# Altium schematic symbol library RPSLib_Logic.SchLib: 20 symbols
Pins are listed as number, name and electrical type; pins without a type are passive.

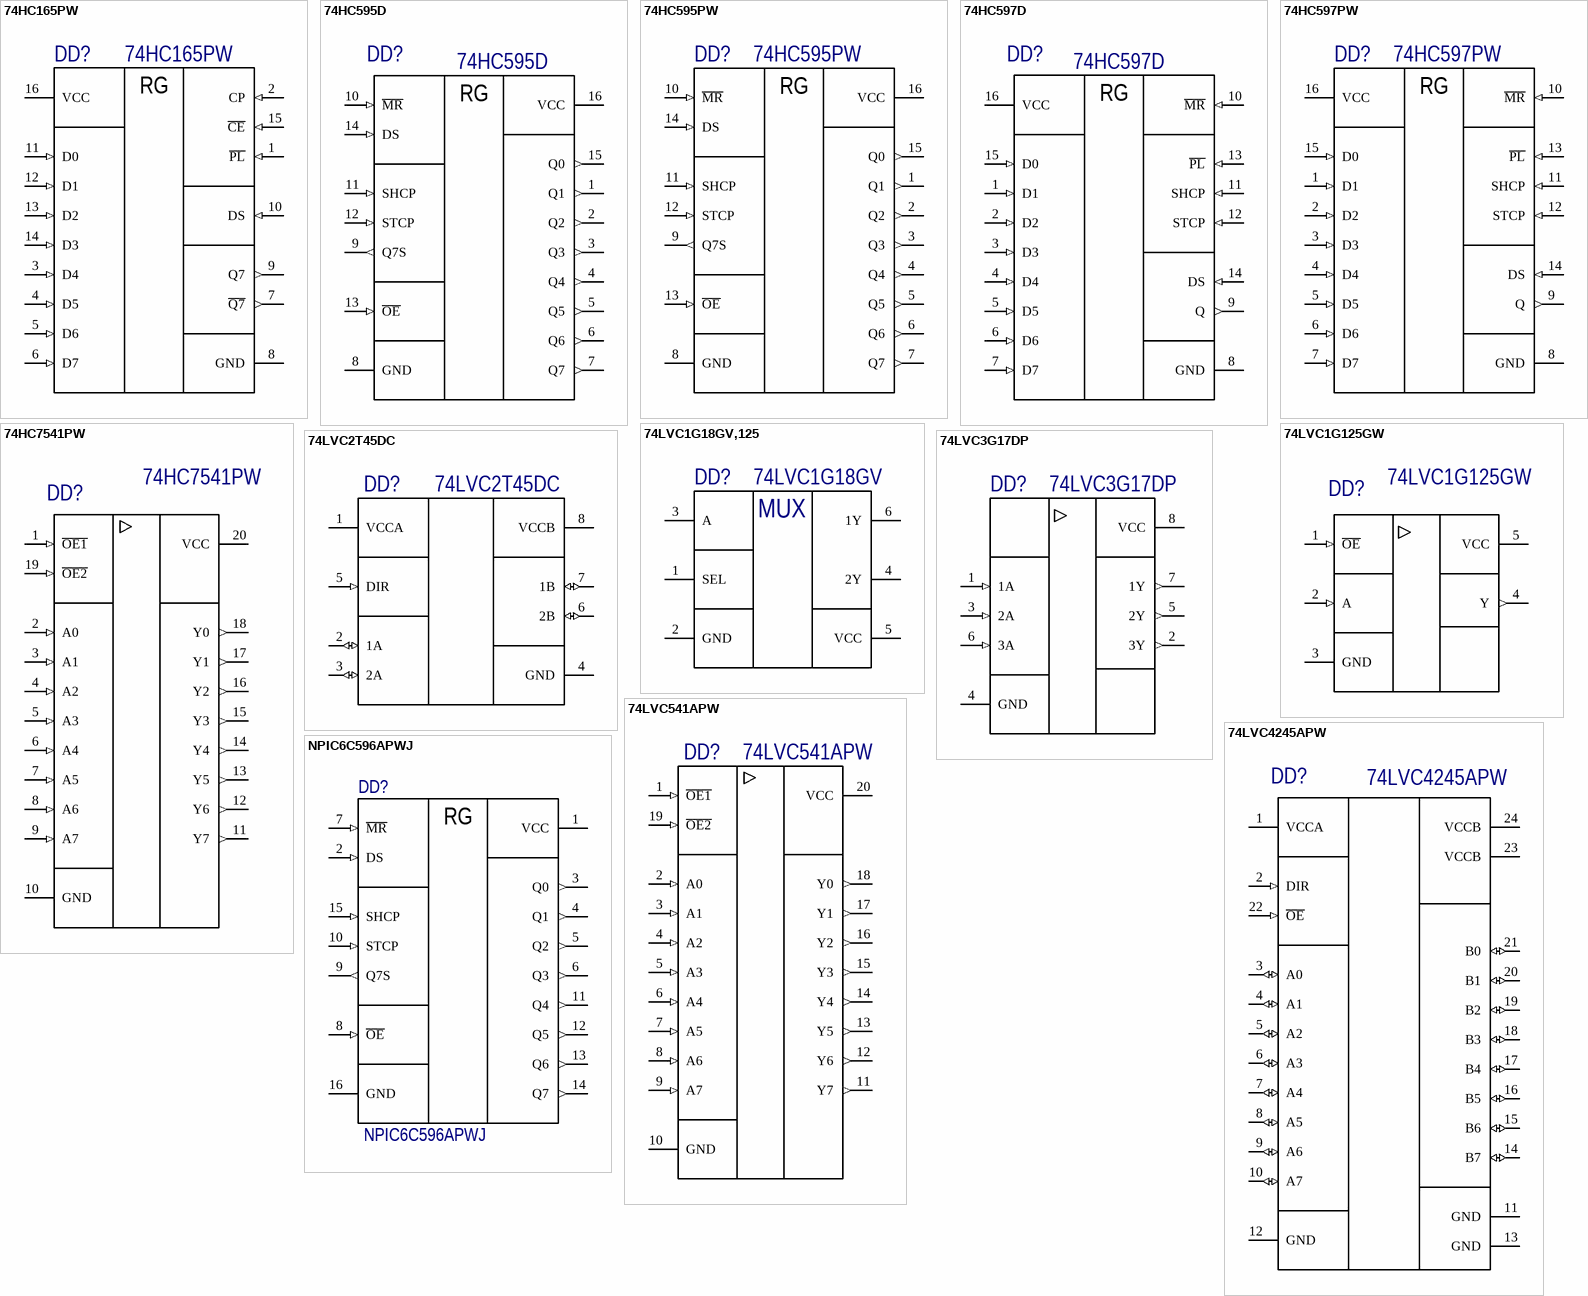
[diagram p0: symbols 74HC165PW to NPIC6C596APWJ]

## 74HC165PW
designator DD?
IC SHIFT REGISTER 8BIT 16TSSOP; Manufacturer: Nexperia; Manufacturer Part Number: 74HC165PW,118; Supplier 1: Digi-Key; RoHS: No; Stock 1: 19921; Pricing 1: 1=0,41000, 10=0,33600, 25=0,30720, 100=0,22870, 250=0,20728, 500=0,17152, 1000=0,12865 (USD); Supplier Part Number 1: 1727-4295-1-ND
footprint TSOP65P640X110-16N (TSOP, 16-Leads, Body 5,00x4,40mm, Pitch 0,65mm, IPC Medium Density)
pins: 1 ~{PL} (in), 2 CP (in), 3 D4 (in), 4 D5 (in), 5 D6 (in), 6 D7 (in), 7 ~{Q7} (out), 8 GND (power), 9 Q7 (out), 10 DS (in), 11 D0 (in), 12 D1 (in), 13 D2 (in), 14 D3 (in), 15 ~{CE} (in), 16 VCC (power)
text: RG

## 74HC595D
designator DD?
IC SHIFT REGISTER 8BIT 16SOIC; Manufacturer: Nexperia; Manufacturer Part Number: 74HC595D,118; Supplier 1: Digi-Key; Stock 1: 104953; Pricing 1: 1=0,48000, 10=0,36500, 25=0,32920, 100=0,22740, 250=0,19148, 500=0,15558, 1000=0,11968 (USD); RoHS: No; ComponentLink1URL: http://www.farnell.com/datasheets/2038613.pdf?src-supplier=Farnell; ComponentLink1Description: http://www.farnell.com/datasheets/2038613.pdf?src-supplier=Farnell; ComponentLink2URL: http://www.farnell.com/datasheets/2038613.pdf?src-supplier=Newark; ComponentLink2Description: http://www.farnell.com/datasheets/2038613.pdf?src-supplier=Newark; ComponentLink3URL: http://www.farnell.com/datasheets/2038613.pdf?src-supplier=Element14; ComponentLink3Description: http://www.farnell.com/datasheets/2038613.pdf?src-supplier=Element14; ComponentLink4URL: https://assets.nexperia.com/documents/data-sheet/74HC_HCT595.pdf?src-supplier=Digi-Key; ComponentLink4Description: https://assets.nexperia.com/documents/data-sheet/74HC_HCT595.pdf?src-supplier=Digi-Key; Supplier Part Number 1: 1727-2821-1-ND
footprint SOIC127P600X175-16N (SOIC, 16-Leads, Body 9,90x3,90mm, Pitch 1,27mm, IPC Medium Density)
pins: 1 Q1 (out), 2 Q2 (out), 3 Q3 (out), 4 Q4 (out), 5 Q5 (out), 6 Q6 (out), 7 Q7 (out), 8 GND (power), 9 Q7S (out), 10 ~{MR} (in), 11 SHCP (in), 12 STCP (in), 13 ~{OE} (in), 14 DS (in), 15 Q0 (out), 16 VCC (power)
text: RG

## 74HC595PW
designator DD?
IC SHIFT REGISTER 8BIT 16TSSOP; Manufacturer: Nexperia; Manufacturer Part Number: 74HC595PW,118; Supplier 1: Digi-Key; RoHS: No; Stock 1: 252659; Pricing 1: 1=0,48000, 10=0,35900, 25=0,32400, 100=0,22390, 250=0,18856, 500=0,15320, 1000=0,11784 (USD); ComponentLink1URL: http://www.farnell.com/datasheets/2242041.pdf?src-supplier=Farnell; ComponentLink1Description: http://www.farnell.com/datasheets/2242041.pdf?src-supplier=Farnell; ComponentLink2URL: https://assets.nexperia.com/documents/data-sheet/74HC_HCT595.pdf?src-supplier=Digi-Key; ComponentLink2Description: https://assets.nexperia.com/documents/data-sheet/74HC_HCT595.pdf?src-supplier=Digi-Key; Supplier Part Number 1: 1727-3068-1-ND
footprint TSOP65P640X110-16N (TSOP, 16-Leads, Body 5,00x4,40mm, Pitch 0,65mm, IPC Medium Density)
pins: 1 Q1 (out), 2 Q2 (out), 3 Q3 (out), 4 Q4 (out), 5 Q5 (out), 6 Q6 (out), 7 Q7 (out), 8 GND (power), 9 Q7S (out), 10 ~{MR} (in), 11 SHCP (in), 12 STCP (in), 13 ~{OE} (in), 14 DS (in), 15 Q0 (out), 16 VCC (power)
text: RG

## 74HC597D
designator DD?
IC SHIFT REGISTER 8BIT 16SOIC; Manufacturer: NXP Semiconductors; Manufacturer Part Number: 74HC597D653; Operating Supply Voltage: 5V; Direction: Unidirectional; Number of Inputs: 8; Number of Elements: 1; Propagation Delay: 16ns; Min Supply Voltage: 2V; Max Supply Voltage: 6V; Number of Input Lines: 9; Turn-On Delay Time: 375ns; Quiescent Current: 8uA; RoHS: Yes; Mount: Surface Mount; Case/Package: SO; Number of Pins: 16; Contact Plating: Gold; Min Operating Temperature: -40°C; Max Operating Temperature: 125°C; Logic Function: Shift Register; Package Quantity: 1; Packaging: Tape and Reel; Number of Bits per Element: 8; Number of Circuits: 1; Number of Output Lines: 1; Number of Bits: 8; Radiation Hardening: No; REACH SVHC: No SVHC; Lead Free: Lead Free; ComponentLink1URL: https://datasheet.ciiva.com/1886/74hc-hct597-1886032.pdf?src-supplier=Digi-Key; ComponentLink1Description: https://datasheet.ciiva.com/1886/74hc-hct597-1886032.pdf?src-supplier=Digi-Key; ComponentLink2URL: https://datasheet.ciiva.com/46414/1841946-46414906.pdf?src-supplier=Element14; ComponentLink2Description: https://datasheet.ciiva.com/46414/1841946-46414906.pdf?src-supplier=Element14; ComponentLink3URL: https://datasheet.ciiva.com/1886/74hc-hct597-1886030.pdf?src-supplier=Digi-Key; ComponentLink3Description: https://datasheet.ciiva.com/1886/74hc-hct597-1886030.pdf?src-supplier=Digi-Key; ComponentLink4URL: https://datasheet.ciiva.com/1886/74hc-hct597-1886031.pdf?src-supplier=Digi-Key; ComponentLink4Description: https://datasheet.ciiva.com/1886/74hc-hct597-1886031.pdf?src-supplier=Digi-Key; Supplier 1: Digi-Key; Supplier Part Number 1: 1727-6341-1-ND
footprint SOIC127P600X175-16N (SOIC, 16-Leads, Body 9,90x3,90mm, Pitch 1,27mm, IPC Medium Density)
pins: 1 D1 (in), 2 D2 (in), 3 D3 (in), 4 D4 (in), 5 D5 (in), 6 D6 (in), 7 D7 (in), 8 GND (power), 9 Q (out), 10 ~{MR} (in), 11 SHCP (in), 12 STCP (in), 13 ~{PL} (in), 14 DS (in), 15 D0 (in), 16 VCC (power)
text: RG

## 74HC597PW
designator DD?
IC 8BIT SHIFT REGISTER 16TSSOP; Manufacturer: Nexperia USA; Manufacturer Part Number: 74HC597PW,118; Supplier 1: Digi-Key; RoHS: No; Stock 1: 9837; Pricing 1: 1=0,63000, 10=0,53700, 25=0,50080, 100=0,40060, 250=0,37200, 500=0,31476, 1000=0,24322 (USD); ComponentLink1URL: https://assets.nexperia.com/documents/data-sheet/74HC_HCT597.pdf?src-supplier=Digi-Key; ComponentLink1Description: https://assets.nexperia.com/documents/data-sheet/74HC_HCT597.pdf?src-supplier=Digi-Key; Supplier Part Number 1: 1727-5962-1-ND
footprint TSOP65P640X110-16N (TSOP, 16-Leads, Body 5,00x4,40mm, Pitch 0,65mm, IPC Medium Density)
pins: 1 D1 (in), 2 D2 (in), 3 D3 (in), 4 D4 (in), 5 D5 (in), 6 D6 (in), 7 D7 (in), 8 GND (power), 9 Q (out), 10 ~{MR} (in), 11 SHCP (in), 12 STCP (in), 13 ~{PL} (in), 14 DS (in), 15 D0 (in), 16 VCC (power)
text: RG

## 74HC7541PW
designator DD?
Schmitt Trigger Buffer/Line Driver 8-CH Non-Inverting 3-ST CMOS 20-Pin TSSOP T/R; Manufacturer: Nexperia; Manufacturer Part Number: 74HC7541PW,118; Supplier 1: Digi-Key; Stock 1: 1843; Pricing 1: 1=0,77000, 10=0,68000, 25=0,63880, 100=0,52120, 250=0,48412, 500=0,41200, 1000=0,32960 (USD); RoHS: No; Supplier Part Number 1: 1727-7531-1-ND
footprint TSOP65P640X110-20N (TSOP, 20-Leads, Body 6,50x4,40mm, Pitch 0,65mm, IPC Medium Density)
pins: 1 ~{OE1} (in), 2 A0 (in), 3 A1 (in), 4 A2 (in), 5 A3 (in), 6 A4 (in), 7 A5 (in), 8 A6 (in), 9 A7 (in), 10 GND (power), 11 Y7 (out), 12 Y6 (out), 13 Y5 (out), 14 Y4 (out), 15 Y3 (out), 16 Y2 (out), 17 Y1 (out), 18 Y0 (out), 19 ~{OE2} (in), 20 VCC (power)

## 74LVC1G18GV,125
designator DD?, comment 74LVC1G18GV
IC DEMULTIPLEXER 3-ST 6TSOP; Manufacturer: Nexperia; Manufacturer Part Number: 74LVC1G18GV,125; Supplier 1: Digi-Key; RoHS: Yes; Category: Decoders and Multiplexers; Stock 1: 25; Pricing 1: 1=0,48000, 10=0,35900, 25=0,31440, 100=0,20340, 250=0,16836, 500=0,13470, 1000=0,10327 (USD); ComponentLink1URL: https://assets.nexperia.com/documents/data-sheet/74LVC1G18.pdf?src-supplier=Digi-Key; ComponentLink1Description: https://assets.nexperia.com/documents/data-sheet/74LVC1G18.pdf?src-supplier=Digi-Key; Supplier Part Number 1: 1727-6972-1-ND
pins: 1 SEL, 2 GND, 3 A, 4 2Y, 5 VCC, 6 1Y
text: MUX

## 74LVC1G125GW
designator DD?
IC BUF NON-INVERT 5.5V 5TSSOP; Manufacturer: Nexperia USA; Manufacturer Part Number: 74LVC1G125GW,125; Supplier 1: Digi-Key; Stock 1: 102445; Pricing 1: 1=0,25000, 10=0,20600, 25=0,17240, 100=0,10910, 250=0,08420, 500=0,07178, 1000=0,04881 (USD); RoHS: No; ComponentLink1URL: http://www.farnell.com/datasheets/2192952.pdf?src-supplier=Farnell; ComponentLink1Description: http://www.farnell.com/datasheets/2192952.pdf?src-supplier=Farnell; ComponentLink2URL: https://assets.nexperia.com/documents/data-sheet/74LVC1G125.pdf?src-supplier=Digi-Key; ComponentLink2Description: https://assets.nexperia.com/documents/data-sheet/74LVC1G125.pdf?src-supplier=Digi-Key; Supplier Part Number 1: 1727-3488-1-ND
footprint SOT65P212X110-5N (SOT23, 5-Leads, Body 2,05x2,13mm, Pitch 0,65mm, IPC Medium Density)
pins: 1 ~{OE} (in), 2 A (in), 3 GND (power), 4 Y (out), 5 VCC (power)

## 74LVC2T45DC
designator DD?
IC TRNSLTR BIDIRECTIONAL 8VSSOP; Manufacturer: Nexperia; Manufacturer Part Number: 74LVC2T45DC,125; Supplier 1: Digi-Key; RoHS: No; Stock 1: 13578; Pricing 1: 1=0,65000, 10=0,55700, 100=0,38650, 500=0,31216, 1000=0,23041 (USD); ComponentLink1URL: http://www.farnell.com/datasheets/1758266.pdf?src-supplier=Farnell; ComponentLink1Description: http://www.farnell.com/datasheets/1758266.pdf?src-supplier=Farnell; ComponentLink2URL: https://assets.nexperia.com/documents/data-sheet/74LVC_LVCH2T45.pdf?src-supplier=Digi-Key; ComponentLink2Description: https://assets.nexperia.com/documents/data-sheet/74LVC_LVCH2T45.pdf?src-supplier=Digi-Key; Supplier Part Number 1: 1727-4578-1-ND
footprint TSSOP50P310X100-8N (TSSOP, 8-Leads, Body 2,00x2,30mm, Pitch 0,50mm, IPC Medium Density)
pins: 1 VCCA, 2 1A (io), 3 2A (io), 4 GND, 5 DIR (in), 6 2B (io), 7 1B (io), 8 VCCB (power)

## 74LVC3G17DP
designator DD?
IC BUF NON-INVERT 5.5V 8TSSOP; Manufacturer: Nexperia; Manufacturer Part Number: 74LVC3G17DP,125; Supplier 1: Digi-Key; RoHS: No; Stock 1: 88518; Pricing 1: 1=0,56000, 10=0,48300, 25=0,45080, 100=0,36050, 250=0,33476, 500=0,28326, 1000=0,21888 (USD); ComponentLink1URL: https://assets.nexperia.com/documents/data-sheet/74LVC3G17.pdf?src-supplier=Digi-Key; ComponentLink1Description: https://assets.nexperia.com/documents/data-sheet/74LVC3G17.pdf?src-supplier=Digi-Key; Supplier Part Number 1: 1727-5998-1-ND
footprint TSSOP50P310X100-8N (TSSOP, 8-Leads, Body 2,00x2,30mm, Pitch 0,50mm, IPC Medium Density)
pins: 1 1A (in), 2 3Y (out), 3 2A (in), 4 GND (power), 5 2Y (out), 6 3A (in), 7 1Y (out), 8 VCC (power)

## 74LVC541APW
designator DD?
IC BUF NON-INVERT 3.6V 20TSSOP; Manufacturer: Nexperia; Manufacturer Part Number: 74LVC541APW,118; Supplier 1: Digi-Key; Stock 1: 35269; Pricing 1: 1=0,49000, 10=0,39800, 25=0,36440, 100=0,27120, 250=0,24576, 500=0,20338, 1000=0,15253 (USD); RoHS: No; ComponentLink1URL: https://assets.nexperia.com/documents/data-sheet/74LVC541A.pdf?src-supplier=Digi-Key; ComponentLink1Description: https://assets.nexperia.com/documents/data-sheet/74LVC541A.pdf?src-supplier=Digi-Key; Supplier Part Number 1: 1727-6370-1-ND
footprint TSOP65P640X110-20N (TSOP, 20-Leads, Body 6,50x4,40mm, Pitch 0,65mm, IPC Medium Density)
pins: 1 ~{OE1} (in), 2 A0 (in), 3 A1 (in), 4 A2 (in), 5 A3 (in), 6 A4 (in), 7 A5 (in), 8 A6 (in), 9 A7 (in), 10 GND (power), 11 Y7 (out), 12 Y6 (out), 13 Y5 (out), 14 Y4 (out), 15 Y3 (out), 16 Y2 (out), 17 Y1 (out), 18 Y0 (out), 19 ~{OE2} (in), 20 VCC (power)

## 74LVC4245APW
designator DD?
IC TRNSLTR BIDIRECTIONAL 24TSSOP; Manufacturer: Nexperia; Manufacturer Part Number: 74LVC4245APW,118; Supplier 1: Digi-Key; Stock 1: 36824; Pricing 1: 1=0,67000, 10=0,58900, 25=0,55320, 100=0,45160, 250=0,41948, 500=0,35700, 1000=0,28560 (USD); RoHS: No; ComponentLink1URL: http://www.farnell.com/datasheets/1714648.pdf?src-supplier=Farnell; ComponentLink1Description: http://www.farnell.com/datasheets/1714648.pdf?src-supplier=Farnell; ComponentLink2URL: https://assets.nexperia.com/documents/data-sheet/74LVC4245A.pdf?src-supplier=Digi-Key; ComponentLink2Description: https://assets.nexperia.com/documents/data-sheet/74LVC4245A.pdf?src-supplier=Digi-Key; ComponentLink3URL: http://www.farnell.com/datasheets/1714648.pdf?src-supplier=Element14; ComponentLink3Description: http://www.farnell.com/datasheets/1714648.pdf?src-supplier=Element14; Supplier Part Number 1: 1727-4308-6-ND
footprint TSOP65P640X110-24N (TSOP, 24-Leads, Body 7,80x4,40mm, Pitch 0,65mm, IPC Medium Density)
pins: 1 VCCA (power), 2 DIR (in), 3 A0 (io), 4 A1 (io), 5 A2 (io), 6 A3 (io), 7 A4 (io), 8 A5 (io), 9 A6 (io), 10 A7 (io), 11 GND (power), 12 GND (power), 13 GND (power), 14 B7 (io), 15 B6 (io), 16 B5 (io), 17 B4 (io), 18 B3 (io), 19 B2 (io), 20 B1 (io), 21 B0 (io), 22 ~{OE} (in), 23 VCCB (power), 24 VCCB (power)

## NPIC6C596APWJ
designator DD?
NPIC6C596A Series 5.5 V Open-Drain Power Logic 8-Bit Shift Register - TSSOP-16; Manufacturer: Nexperia; Supplier 1: Digi-Key; Manufacturer Part Number: NPIC6C596APWJ; RoHS: Yes; Category: Shift Registers; Stock 1: 31242; Pricing 1: 1=0,83000, 10=0,73000, 25=0,68560, 100=0,55940, 250=0,51964, 500=0,44224, 1000=0,35379 (USD); RoHS Compliant: Yes; Supplier Part Number 1: 1727-1844-1-ND
footprint TSOP65P640X110-16N (TSOP, 16-Leads, Body 5,00x4,40mm, Pitch 0,65mm, IPC Medium Density)
pins: 1 VCC (power), 2 DS (in), 3 Q0 (out), 4 Q1 (out), 5 Q2 (out), 6 Q3 (out), 7 ~{MR} (in), 8 ~{OE} (in), 9 Q7S (out), 10 STCP (in), 11 Q4 (out), 12 Q5 (out), 13 Q6 (out), 14 Q7 (out), 15 SHCP (in), 16 GND (power)
text: RG

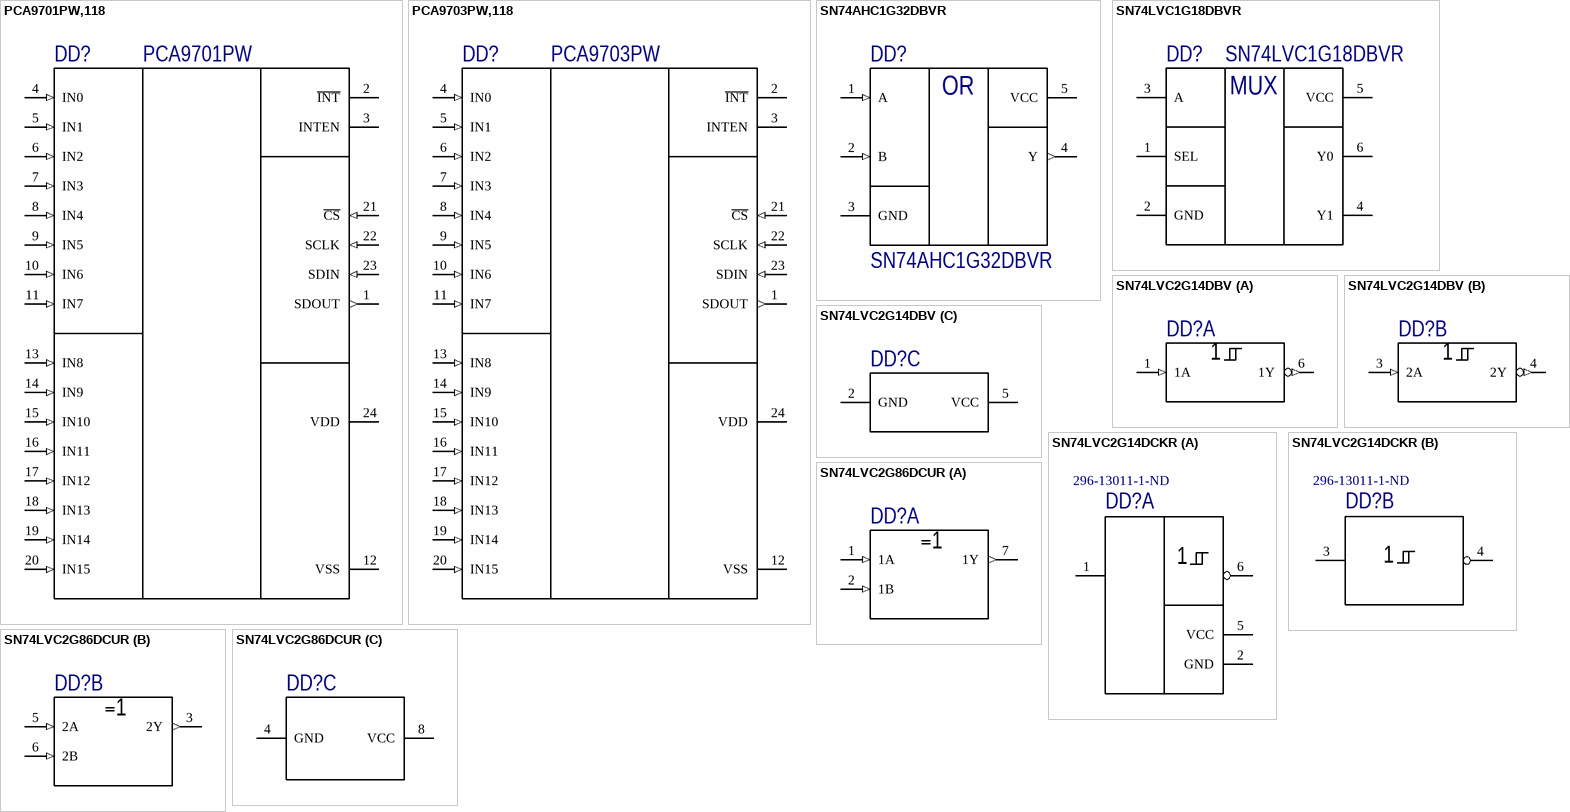
[diagram p1: symbols PCA9701PW,118 to SN74LVC2G86DCUR]

## PCA9701PW,118
designator DD?, comment PCA9701PW
IC, GPI SHIFT REGISTER, 16BIT, TSSOP-24; Manufacturer: NXP Semiconductors; Manufacturer Part Number: PCA9701PW,118; Interface: SPI,Serial; Nominal Supply Current: 1uA; Max Supply Voltage: 5.5V; Max Frequency: 5MHz; Supplier 1: Digi-Key; RoHS: Yes; Category: Clock and Timing; Stock 1: 3395; Pricing 1: 1=1,63000, 10=1,46100, 100=1,17440, 500=0,96488, 1000=0,79947 (USD); Mount: Surface Mount; Case/Package: TSSOP; Number of Pins: 24; Min Operating Temperature: -40°C; Max Operating Temperature: 125°C; Packaging: Tape and Reel; Package Quantity: 1; Radiation Hardening: No; Lead Free: Lead Free; ComponentLink1URL: https://datasheet.ciiva.com/15095/getdatasheetpartid-429891-15095616.pdf?src-supplier=Verical; ComponentLink1Description: https://datasheet.ciiva.com/15095/getdatasheetpartid-429891-15095616.pdf?src-supplier=Verical; ComponentLink2URL: https://datasheet.ciiva.com/1600/1766324-1600707.pdf?src-supplier=Newark; ComponentLink2Description: https://datasheet.ciiva.com/1600/1766324-1600707.pdf?src-supplier=Newark; ComponentLink3URL: https://datasheet.ciiva.com/1784/pca9701-pca9702-1784138.pdf?src-supplier=Digi-Key; ComponentLink3Description: https://datasheet.ciiva.com/1784/pca9701-pca9702-1784138.pdf?src-supplier=Digi-Key; ComponentLink4URL: https://datasheet.ciiva.com/17394/pca9701-pca9702-17394716.pdf?src-supplier=Avnet+Europe; ComponentLink4Description: https://datasheet.ciiva.com/17394/pca9701-pca9702-17394716.pdf?src-supplier=Avnet+Europe; ComponentLink5URL: https://datasheet.ciiva.com/4826/pca9701-pca9702-4826287.pdf?src-supplier=Mouser; ComponentLink5Description: https://datasheet.ciiva.com/4826/pca9701-pca9702-4826287.pdf?src-supplier=Mouser; ComponentLink6URL: https://datasheet.ciiva.com/1784/pca9701-pca9702-1784136.pdf?src-supplier=Digi-Key; ComponentLink6Description: https://datasheet.ciiva.com/1784/pca9701-pca9702-1784136.pdf?src-supplier=Digi-Key; ComponentLink7URL: https://datasheet.ciiva.com/1784/pca9701-pca9702-1784137.pdf?src-supplier=Digi-Key; ComponentLink7Description: https://datasheet.ciiva.com/1784/pca9701-pca9702-1784137.pdf?src-supplier=Digi-Key; Supplier Part Number 1: 568-4290-1-ND
footprint TSOP65P640X110-24N (TSOP, 24-Leads, Body 7,80x4,40mm, Pitch 0,65mm, IPC Medium Density)
pins: 1 SDOUT (out), 2 ~{INT}, 3 INTEN, 4 IN0 (in), 5 IN1 (in), 6 IN2 (in), 7 IN3 (in), 8 IN4 (in), 9 IN5 (in), 10 IN6 (in), 11 IN7 (in), 12 VSS (power), 13 IN8 (in), 14 IN9 (in), 15 IN10 (in), 16 IN11 (in), 17 IN12 (in), 18 IN13 (in), 19 IN14 (in), 20 IN15 (in), 21 ~{CS} (in), 22 SCLK (in), 23 SDIN (in), 24 VDD (power)

## PCA9703PW,118
designator DD?, comment PCA9703PW
IC SHIFT REG SPI GPI 24TSSOP; Manufacturer: NXP Semiconductors; Manufacturer Part Number: PCA9703PW,118; Interface: SPI,Serial; Nominal Supply Current: 1uA; Max Supply Voltage: 5.5V; Supplier 1: Digi-Key; RoHS: Yes; Category: Interface ICs; Stock 1: 6020; Pricing 1: 1=1,78000, 10=1,59900, 100=1,28520, 500=1,05590, 1000=0,87489 (USD); Mount: Surface Mount; Case/Package: TSSOP; Number of Pins: 24; Min Operating Temperature: -40°C; Max Operating Temperature: 125°C; Packaging: Tape and Reel; Package Quantity: 2500; Radiation Hardening: No; Lead Free: Lead Free; ComponentLink1URL: https://datasheet.ciiva.com/1784/pca9703-1784051.pdf?src-supplier=Digi-Key; ComponentLink1Description: https://datasheet.ciiva.com/1784/pca9703-1784051.pdf?src-supplier=Digi-Key; ComponentLink2URL: https://datasheet.ciiva.com/1784/pca9703-1784052.pdf?src-supplier=Digi-Key; ComponentLink2Description: https://datasheet.ciiva.com/1784/pca9703-1784052.pdf?src-supplier=Digi-Key; ComponentLink3URL: https://datasheet.ciiva.com/1784/pca9703-1784053.pdf?src-supplier=Digi-Key; ComponentLink3Description: https://datasheet.ciiva.com/1784/pca9703-1784053.pdf?src-supplier=Digi-Key; ComponentLink4URL: https://datasheet.ciiva.com/17394/pca9703-17394725.pdf?src-supplier=Avnet+Europe; ComponentLink4Description: https://datasheet.ciiva.com/17394/pca9703-17394725.pdf?src-supplier=Avnet+Europe; ComponentLink5URL: https://datasheet.ciiva.com/8254/pca9703-8254679.pdf?src-supplier=Avnet; ComponentLink5Description: https://datasheet.ciiva.com/8254/pca9703-8254679.pdf?src-supplier=Avnet; ComponentLink6URL: https://datasheet.ciiva.com/8255/pca9703-8255551.pdf?src-supplier=Avnet; ComponentLink6Description: https://datasheet.ciiva.com/8255/pca9703-8255551.pdf?src-supplier=Avnet; Supplier Part Number 1: 568-5114-1-ND
footprint TSOP65P640X110-24N (TSOP, 24-Leads, Body 7,80x4,40mm, Pitch 0,65mm, IPC Medium Density)
pins: 1 SDOUT (out), 2 ~{INT}, 3 INTEN, 4 IN0 (in), 5 IN1 (in), 6 IN2 (in), 7 IN3 (in), 8 IN4 (in), 9 IN5 (in), 10 IN6 (in), 11 IN7 (in), 12 VSS (power), 13 IN8 (in), 14 IN9 (in), 15 IN10 (in), 16 IN11 (in), 17 IN12 (in), 18 IN13 (in), 19 IN14 (in), 20 IN15 (in), 21 ~{CS} (in), 22 SCLK (in), 23 SDIN (in), 24 VDD (power)

## SN74AHC1G32DBVR
designator DD?
TEXAS INSTRUMENTS - SN74AHC1G32DBVR - 74AHC SINGLE GATE, SMD, 74AHC1G32; Logic Function: OR GATE; Min Supply Voltage: 2V; Max Supply Voltage: 5.5V; Quiescent Current: 1uA; Number of Bits: 1; Number of Inputs: 2; Propagation Delay: 7.5ns; High Level Output Current: -8mA; Low Level Output Current: 8mA; Turn-On Delay Time: 11.4ns; Schmitt Trigger Input: No; Supplier 1: Digi-Key; Manufacturer: Texas Instruments; Manufacturer Part Number: SN74AHC1G32DBVR; RoHS: Yes; Category: Logic Gates; Stock 1: 35916; Pricing 1: 1=0,32000, 10=0,26200, 25=0,21960, 100=0,13900, 250=0,10728, 500=0,09142, 1000=0,06217 (USD); Mount: Surface Mount; Case/Package: SOT-23; Number of Pins: 5; Weight: 0.000557oz; Contact Plating: Tin,Matte; Min Operating Temperature: -40°C; Max Operating Temperature: 125°C; Number of Gates: 1; Package Quantity: 1; Packaging: Tape and Reel; Number of Outputs: 1; Number of Elements: 1; Number of Circuits: 1; Number of Input Lines: 2; Number of Output Lines: 1; Output Current: 8mA; Max Output Current: 8mA; Termination: SMD/SMT; Length: 2.9mm; Width: 1.6mm; Height: 1.15mm; Radiation Hardening: No; Lead Free: Lead Free; RoHS Compliant: Yes; REACH SVHC: No SVHC; ComponentLink1URL: https://datasheet.ciiva.com/4216/1358sn74ahc1g32-4216809.pdf?src-supplier=Arrow+Electronics; ComponentLink1Description: https://datasheet.ciiva.com/4216/1358sn74ahc1g32-4216809.pdf?src-supplier=Arrow+Electronics; ComponentLink2URL: https://datasheet.ciiva.com/27050/913109-27050899.pdf?src-supplier=Jameco; ComponentLink2Description: https://datasheet.ciiva.com/27050/913109-27050899.pdf?src-supplier=Jameco; ComponentLink3URL: https://datasheet.ciiva.com/15090/getdatasheetpartid-44427-15090198.pdf?src-supplier=Verical; ComponentLink3Description: https://datasheet.ciiva.com/15090/getdatasheetpartid-44427-15090198.pdf?src-supplier=Verical; ComponentLink4URL: https://datasheet.ciiva.com/1864/sn74ahc1g32-1864194.pdf?src-supplier=Digi-Key; ComponentLink4Description: https://datasheet.ciiva.com/1864/sn74ahc1g32-1864194.pdf?src-supplier=Digi-Key; ComponentLink5URL: https://datasheet.ciiva.com/1864/sn74ahc1g32-1864195.pdf?src-supplier=Digi-Key; ComponentLink5Description: https://datasheet.ciiva.com/1864/sn74ahc1g32-1864195.pdf?src-supplier=Digi-Key; ComponentLink6URL: https://datasheet.ciiva.com/1864/sn74ahc1g32-1864196.pdf?src-supplier=Digi-Key; ComponentLink6Description: https://datasheet.ciiva.com/1864/sn74ahc1g32-1864196.pdf?src-supplier=Digi-Key; ComponentLink7URL: https://datasheet.ciiva.com/14290/sn74ahc1g32-14290550.pdf?src-supplier=Avnet; ComponentLink7Description: https://datasheet.ciiva.com/14290/sn74ahc1g32-14290550.pdf?src-supplier=Avnet; ComponentLink8URL: https://datasheet.ciiva.com/46430/1857053-46430934.pdf?src-supplier=Element14; ComponentLink8Description: https://datasheet.ciiva.com/46430/1857053-46430934.pdf?src-supplier=Element14; ComponentLink9URL: https://datasheet.ciiva.com/14290/sn74ahc1g32-14290553.pdf?src-supplier=Avnet; ComponentLink9Description: https://datasheet.ciiva.com/14290/sn74ahc1g32-14290553.pdf?src-supplier=Avnet; ComponentLink10URL: https://datasheet.ciiva.com/26048/sn74ahc1g32-26048618.pdf?src-supplier=Avnet+Europe; ComponentLink10Description: https://datasheet.ciiva.com/26048/sn74ahc1g32-26048618.pdf?src-supplier=Avnet+Europe; ComponentLink11URL: https://datasheet.ciiva.com/7783/1767165-7783615.pdf?src-supplier=Element14; ComponentLink11Description: https://datasheet.ciiva.com/7783/1767165-7783615.pdf?src-supplier=Element14; Supplier Part Number 1: 296-1093-1-ND
footprint SOT95P280X110-5N (SOT23, 5-Leads, Body 2,90x2,80mm, Pitch 0,95mm, IPC Medium Density)
pins: 1 A (in), 2 B (in), 3 GND (power), 4 Y (out), 5 VCC (power)
text: OR

## SN74LVC1G18DBVR
designator DD?
IC 1OF2 NON-INV DEMUX SOT23-6; Manufacturer: Texas Instruments; Max Supply Voltage: 5.5V; Min Supply Voltage: 1.65V; Propagation Delay: 12.7ns; Logic Function: Demultiplexer; Number of Elements: 1; High Level Output Current: -32mA; Low Level Output Current: 32mA; Polarity: Non-Inverting; Quiescent Current: 10uA; Supply Type: Single; Number of Outputs: 2; Throw Configuration: SPDT; Output Type: 3-STATE; Supplier 1: Digi-Key; Manufacturer Part Number: SN74LVC1G18DBVR; RoHS: Yes; Category: Decoders and Multiplexers; Stock 1: 13199; Pricing 1: 1=0,36000, 10=0,29100, 25=0,26640, 100=0,19840, 250=0,17980, 500=0,14880, 1000=0,13020 (USD); Mount: Surface Mount; Case/Package: SOT-23; Number of Pins: 6; Weight: 0.000229oz; Contact Plating: Gold; Min Operating Temperature: -40°C; Max Operating Temperature: 85°C; Package Quantity: 3000; Packaging: Tape and Reel; Turn-On Delay Time: 12.7ns; Independent Circuits: 1; Number of Inputs: 1; Number of Input Lines: 1; Number of Output Lines: 2; Number of Gates: 1; Number of Bits: 1; Series: 74LVC; Technology: CMOS; Number of Channels: 1; Max Output Current: 32mA; Termination: SMD/SMT; Number of Circuits: 1; Length: 2.9mm; Width: 1.6mm; Height: 1.15mm; Radiation Hardening: No; Lead Free: Lead Free; RoHS Compliant: Yes; REACH SVHC: No SVHC; ComponentLink1URL: https://datasheet.ciiva.com/22654/1806032-22654229.pdf?src-supplier=Farnell; ComponentLink1Description: https://datasheet.ciiva.com/22654/1806032-22654229.pdf?src-supplier=Farnell; ComponentLink2URL: https://datasheet.ciiva.com/15092/getdatasheetpartid-247151-15092348.pdf?src-supplier=Verical; ComponentLink2Description: https://datasheet.ciiva.com/15092/getdatasheetpartid-247151-15092348.pdf?src-supplier=Verical; ComponentLink3URL: https://datasheet.ciiva.com/22714/1737053-22714732.pdf?src-supplier=Element14; ComponentLink3Description: https://datasheet.ciiva.com/22714/1737053-22714732.pdf?src-supplier=Element14; ComponentLink4URL: https://datasheet.ciiva.com/1888/sn74lvc1g18-1888580.pdf?src-supplier=Digi-Key; ComponentLink4Description: https://datasheet.ciiva.com/1888/sn74lvc1g18-1888580.pdf?src-supplier=Digi-Key; ComponentLink5URL: https://datasheet.ciiva.com/1888/sn74lvc1g18-1888581.pdf?src-supplier=Digi-Key; ComponentLink5Description: https://datasheet.ciiva.com/1888/sn74lvc1g18-1888581.pdf?src-supplier=Digi-Key; ComponentLink6URL: https://datasheet.ciiva.com/46384/1887574-46384629.pdf?src-supplier=Element14; ComponentLink6Description: https://datasheet.ciiva.com/46384/1887574-46384629.pdf?src-supplier=Element14; ComponentLink7URL: https://datasheet.ciiva.com/1888/sn74lvc1g18-1888582.pdf?src-supplier=Digi-Key; ComponentLink7Description: https://datasheet.ciiva.com/1888/sn74lvc1g18-1888582.pdf?src-supplier=Digi-Key; ComponentLink8URL: https://datasheet.ciiva.com/26208/sn74lvc1g18-26208182.pdf?src-supplier=Avnet+Europe; ComponentLink8Description: https://datasheet.ciiva.com/26208/sn74lvc1g18-26208182.pdf?src-supplier=Avnet+Europe; ComponentLink9URL: https://datasheet.ciiva.com/48702/001074839-da-01-en-ic-1of2-non-sn74lvc1g18dbvr-sot-23-6-tid-48702458.pdf?src-supplier=Conrad; ComponentLink9Description: https://datasheet.ciiva.com/48702/001074839-da-01-en-ic-1of2-non-sn74lvc1g18dbvr-sot-23-6-tid-48702458.pdf?src-supplier=Conrad; Supplier Part Number 1: 296-15568-1-ND
footprint SOT95P280X110-6N (SOT23, 6-Leads, Body 2,90x2,80mm, Pitch 0,95mm, IPC Medium Density)
pins: 1 SEL, 2 GND, 3 A, 4 Y1, 5 VCC, 6 Y0
text: MUX

## SN74LVC2G14DBV
designator DD?  (value not drawn)
Inverter IC 2 Channel Schmitt Trigger SOT-23-6; Manufacturer: Texas Instruments; Manufacturer Part Number: SN74LVC2G14DBVR; Number of Inputs: 1; Propagation Delay: 9.5ns; Max Supply Voltage: 5.5V; Min Supply Voltage: 1.65V; Logic Function: Buffer,Inverter,Inverting,Schmitt Trigger; Number of Elements: 2; Quiescent Current: 10uA; High Level Output Current: -32mA; Low Level Output Current: 32mA; Turn-On Delay Time: 4.3ns; Schmitt Trigger Input: Yes; Supplier 1: Digi-Key; RoHS: Yes; Category: Logic Gates; Pricing 1: 1=0,41000, 10=0,32900, 25=0,30080, 100=0,22390, 250=0,20288, 500=0,16790, 1000=0,12593 (USD); Mount: Surface Mount; Case/Package: SOT-23; Number of Pins: 6; Weight: 0.000557oz; Contact Plating: Tin,Matte; Min Operating Temperature: -40°C; Max Operating Temperature: 125°C; Package Quantity: 3000; Packaging: Tape and Reel; Number of Circuits: 2; Number of Gates: 2; Number of Bits: 2; Output Current: 32mA; Max Output Current: 32mA; Termination: SMD/SMT; Length: 2.9mm; Width: 1.6mm; Height: 1.15mm; Radiation Hardening: No; Lead Free: Lead Free; RoHS Compliant: Yes; REACH SVHC: No SVHC; ComponentLink1URL: https://datasheet.ciiva.com/34301/1046238-34301917.pdf?src-supplier=Jameco; ComponentLink1Description: https://datasheet.ciiva.com/34301/1046238-34301917.pdf?src-supplier=Jameco; ComponentLink2URL: https://datasheet.ciiva.com/28540/1772571-28540805.pdf?src-supplier=Element14; ComponentLink2Description: https://datasheet.ciiva.com/28540/1772571-28540805.pdf?src-supplier=Element14; ComponentLink3URL: https://datasheet.ciiva.com/4827/sn74lvc2g14-50958-4827361.pdf?src-supplier=Mouser; ComponentLink3Description: https://datasheet.ciiva.com/4827/sn74lvc2g14-50958-4827361.pdf?src-supplier=Mouser; ComponentLink4URL: https://datasheet.ciiva.com/15089/getdatasheetpartid-44147-15089068.pdf?src-supplier=Verical; ComponentLink4Description: https://datasheet.ciiva.com/15089/getdatasheetpartid-44147-15089068.pdf?src-supplier=Verical; ComponentLink5URL: https://datasheet.ciiva.com/7783/1768119-7783612.pdf?src-supplier=Element14; ComponentLink5Description: https://datasheet.ciiva.com/7783/1768119-7783612.pdf?src-supplier=Element14; ComponentLink6URL: https://datasheet.ciiva.com/7783/1768119-7783611.pdf?src-supplier=Element14; ComponentLink6Description: https://datasheet.ciiva.com/7783/1768119-7783611.pdf?src-supplier=Element14; ComponentLink7URL: https://datasheet.ciiva.com/1864/sn74lvc2g14-1864306.pdf?src-supplier=Digi-Key; ComponentLink7Description: https://datasheet.ciiva.com/1864/sn74lvc2g14-1864306.pdf?src-supplier=Digi-Key; ComponentLink8URL: https://datasheet.ciiva.com/1864/sn74lvc2g14-1864305.pdf?src-supplier=Digi-Key; ComponentLink8Description: https://datasheet.ciiva.com/1864/sn74lvc2g14-1864305.pdf?src-supplier=Digi-Key; ComponentLink9URL: https://datasheet.ciiva.com/1864/sn74lvc2g14-1864307.pdf?src-supplier=Digi-Key; ComponentLink9Description: https://datasheet.ciiva.com/1864/sn74lvc2g14-1864307.pdf?src-supplier=Digi-Key; ComponentLink10URL: https://datasheet.ciiva.com/14288/sn74lvc2g14-14288309.pdf?src-supplier=Avnet; ComponentLink10Description: https://datasheet.ciiva.com/14288/sn74lvc2g14-14288309.pdf?src-supplier=Avnet; Supplier 2: LCSC; Supplier Part Number 1: 296-13010-1-ND; Supplier Part Number 2: C12401
footprint SOT95P280X110-6N (SOT23, 6-Leads, Body 2,90x2,80mm, Pitch 0,95mm, IPC Medium Density)
part A pins: 1 1A (in), 6 1Y (out)
part B pins: 3 2A (in), 4 2Y (out)
part C pins: 2 GND (power), 5 VCC (power)

## SN74LVC2G14DCKR
designator DD?  Supplier Part Number 1: 296-13011-1-ND  (hidden comment: SN74LVC2G14DCKR)
IC INVERTER DUAL SHMT-T SC-70-6; Manufacturer: Texas Instruments; Max Supply Voltage: 5.5V; Min Supply Voltage: 1.65V; Number of Inputs: 1; Propagation Delay: 9.5ns; Logic Function: Inverting,Schmitt Trigger,Buffer,Inverter; Number of Elements: 2; Low Level Output Current: 32mA; High Level Output Current: -32mA; Quiescent Current: 10uA; Supplier 1: Digi-Key; Manufacturer Part Number: SN74LVC2G14DCKR; RoHS: Yes; Category: Logic Gates; Pricing 1: 1=0,43000, 10=0,34900, 25=0,31920, 100=0,23740, 250=0,21520, 500=0,17808, 1000=0,13356 (USD); Mount: Surface Mount; Case/Package: SC; Number of Pins: 6; Weight: 8.8E-05oz; Contact Plating: Gold; Min Operating Temperature: -40°C; Max Operating Temperature: 125°C; Packaging: Tape and Reel; Package Quantity: 3000; Number of Circuits: 2; Turn-On Delay Time: 9.5ns; Number of Gates: 2; Number of Bits: 2; Output Current: 32mA; Max Output Current: 32mA; Termination: SMD/SMT; Radiation Hardening: No; Lead Free: Lead Free; RoHS Compliant: Yes; REACH SVHC: No SVHC; ComponentLink1URL: https://datasheet.ciiva.com/6124/1768119-6124725.pdf?src-supplier=Farnell; ComponentLink1Description: https://datasheet.ciiva.com/6124/1768119-6124725.pdf?src-supplier=Farnell; ComponentLink2URL: https://datasheet.ciiva.com/15089/getdatasheetpartid-190000-15089351.pdf?src-supplier=Verical; ComponentLink2Description: https://datasheet.ciiva.com/15089/getdatasheetpartid-190000-15089351.pdf?src-supplier=Verical; ComponentLink3URL: https://datasheet.ciiva.com/7783/1768119-7783533.pdf?src-supplier=Element14; ComponentLink3Description: https://datasheet.ciiva.com/7783/1768119-7783533.pdf?src-supplier=Element14; ComponentLink4URL: https://datasheet.ciiva.com/7783/1768119-7783534.pdf?src-supplier=Element14; ComponentLink4Description: https://datasheet.ciiva.com/7783/1768119-7783534.pdf?src-supplier=Element14; ComponentLink5URL: https://datasheet.ciiva.com/46439/1863761-46439212.pdf?src-supplier=Element14; ComponentLink5Description: https://datasheet.ciiva.com/46439/1863761-46439212.pdf?src-supplier=Element14; ComponentLink6URL: https://datasheet.ciiva.com/46439/1853547-46439194.pdf?src-supplier=Element14; ComponentLink6Description: https://datasheet.ciiva.com/46439/1853547-46439194.pdf?src-supplier=Element14; ComponentLink7URL: https://datasheet.ciiva.com/1864/sn74lvc2g14-1864309.pdf?src-supplier=Digi-Key; ComponentLink7Description: https://datasheet.ciiva.com/1864/sn74lvc2g14-1864309.pdf?src-supplier=Digi-Key; ComponentLink8URL: https://datasheet.ciiva.com/1864/sn74lvc2g14-1864308.pdf?src-supplier=Digi-Key; ComponentLink8Description: https://datasheet.ciiva.com/1864/sn74lvc2g14-1864308.pdf?src-supplier=Digi-Key; ComponentLink9URL: https://datasheet.ciiva.com/1864/sn74lvc2g14-1864310.pdf?src-supplier=Digi-Key; ComponentLink9Description: https://datasheet.ciiva.com/1864/sn74lvc2g14-1864310.pdf?src-supplier=Digi-Key; ComponentLink10URL: https://datasheet.ciiva.com/14288/sn74lvc2g14-14288315.pdf?src-supplier=Avnet; ComponentLink10Description: https://datasheet.ciiva.com/14288/sn74lvc2g14-14288315.pdf?src-supplier=Avnet; ComponentLink11URL: https://datasheet.ciiva.com/14292/sn74lvc2g14-14292396.pdf?src-supplier=Avnet; ComponentLink11Description: https://datasheet.ciiva.com/14292/sn74lvc2g14-14292396.pdf?src-supplier=Avnet; ComponentLink12URL: https://datasheet.ciiva.com/48703/001074534-da-01-en-ic-inverter-sn74lvc2g14dckr-sc-70-6-tid-48703467.pdf?src-supplier=Conrad; ComponentLink12Description: https://datasheet.ciiva.com/48703/001074534-da-01-en-ic-inverter-sn74lvc2g14dckr-sc-70-6-tid-48703467.pdf?src-supplier=Conrad
footprint SOT65P210X100-6N (SC70-6, SOT323, 6-Leads, Body 2.00x2.10mm, Pitch 0.65mm, IPC Medium Density)
part A pins: 1 A, 2 GND (power), 5 VCC, 6 Y
part B pins: 3 A, 4 Y

## SN74LVC2G86DCUR
designator DD?  (value not drawn)
2-ch, 2-input, 1.65-V to 5.5-V XOR (exclusive OR) gates 8-VSSOP -40 to 125; Manufacturer: Texas Instruments; Number of Inputs: 2; Min Supply Voltage: 1.65V; Max Supply Voltage: 5.5V; Number of Outputs: 1; Propagation Delay: 3.6ns; Logic Function: XOR GATE,OR GATE; Quiescent Current: 10uA; High Level Output Current: -32mA; Low Level Output Current: 32mA; Turn-On Delay Time: 4.7ns; Schmitt Trigger Input: No; Output Current: 50mA; Supplier 1: Digi-Key; Manufacturer Part Number: SN74LVC2G86DCUR; RoHS: Yes; Category: Logic Gates; Pricing 1: 1=0,68000, 10=0,60200, 25=0,56520, 100=0,46130, 250=0,42844, 500=0,36464, 1000=0,30100 (USD); Mount: Surface Mount; Case/Package: VSSOP; Number of Pins: 8; Weight: 0.000339oz; Contact Plating: Gold; Min Operating Temperature: -40°C; Max Operating Temperature: 125°C; Packaging: Tape and Reel; Package Quantity: 1; Number of Elements: 2; Number of Circuits: 2; Number of Gates: 2; Number of Input Lines: 2; Number of Output Lines: 1; Number of Bits: 2; Series: 74LVC; Technology: CMOS; Length: 2.3mm; Width: 2mm; Height: 0.85mm; Radiation Hardening: No; Lead Free: Lead Free; RoHS Compliant: Yes; REACH SVHC: No SVHC; ComponentLink1URL: https://datasheet.ciiva.com/1865/sn74lvc2g86-1865792.pdf?src-supplier=Digi-Key; ComponentLink1Description: https://datasheet.ciiva.com/1865/sn74lvc2g86-1865792.pdf?src-supplier=Digi-Key; ComponentLink2URL: https://datasheet.ciiva.com/22675/1852935-22675303.pdf?src-supplier=Element14; ComponentLink2Description: https://datasheet.ciiva.com/22675/1852935-22675303.pdf?src-supplier=Element14; ComponentLink3URL: https://datasheet.ciiva.com/46383/1852935-46383847.pdf?src-supplier=Element14; ComponentLink3Description: https://datasheet.ciiva.com/46383/1852935-46383847.pdf?src-supplier=Element14; ComponentLink4URL: https://datasheet.ciiva.com/1865/sn74lvc2g86-1865791.pdf?src-supplier=Digi-Key; ComponentLink4Description: https://datasheet.ciiva.com/1865/sn74lvc2g86-1865791.pdf?src-supplier=Digi-Key; ComponentLink5URL: https://datasheet.ciiva.com/1865/sn74lvc2g86-1865790.pdf?src-supplier=Digi-Key; ComponentLink5Description: https://datasheet.ciiva.com/1865/sn74lvc2g86-1865790.pdf?src-supplier=Digi-Key; ComponentLink6URL: https://datasheet.ciiva.com/14290/sn74lvc2g86-14290703.pdf?src-supplier=Avnet; ComponentLink6Description: https://datasheet.ciiva.com/14290/sn74lvc2g86-14290703.pdf?src-supplier=Avnet; ComponentLink7URL: https://datasheet.ciiva.com/14290/sn74lvc2g86-14290699.pdf?src-supplier=Avnet; ComponentLink7Description: https://datasheet.ciiva.com/14290/sn74lvc2g86-14290699.pdf?src-supplier=Avnet; ComponentLink8URL: https://datasheet.ciiva.com/48702/001074554-da-01-en-ic-dual-2-in-ex-sn74lvc2g86dcur-us-8-tid-48702439.pdf?src-supplier=Conrad; ComponentLink8Description: https://datasheet.ciiva.com/48702/001074554-da-01-en-ic-dual-2-in-ex-sn74lvc2g86dcur-us-8-tid-48702439.pdf?src-supplier=Conrad; Supplier 2: LCSC; Supplier Part Number 1: 296-13275-1-ND; Supplier Part Number 2: C507252
footprint TSSOP50P310X90-8N (TSSOP, 8-Leads, Body 2.00x2.30mm, Pitch 0.50mm, IPC Medium Density)
part A pins: 1 1A (in), 2 1B (in), 7 1Y (out)
part B pins: 3 2Y (out), 5 2A (in), 6 2B (in)
part C pins: 4 GND (power), 8 VCC (power)